# EAGLE library part FT232 (library tpl0401b)
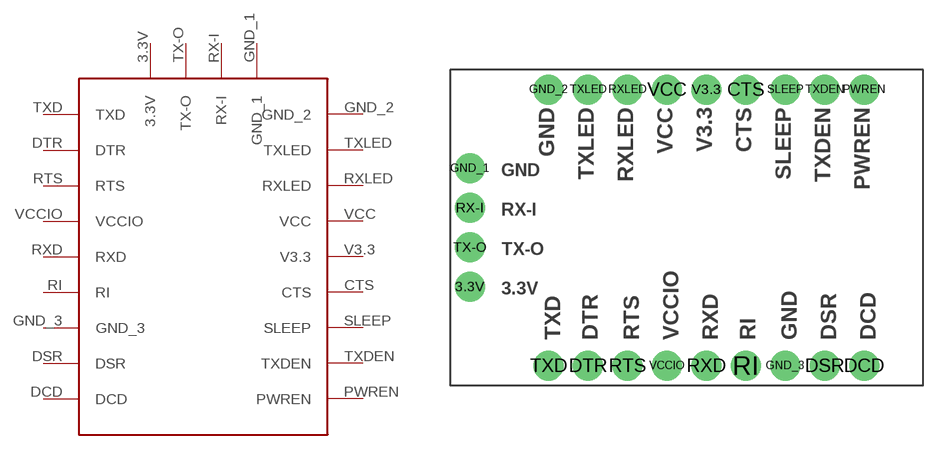
[diagram p0: symbol with the pads of FT232; footprint FT232]

Designator prefix -

## FT232  [FT232]
3.3V  3.3V
CTS  CTS
DCD  DCD
DSR  DSR
DTR  DTR
GND_1  GND_1
GND_2  GND_2
GND_3  GND_3
PWREN  PWREN
RI  RI
RTS  RTS
RX-I  RX-I
RXD  RXD
RXLED  RXLED
SLEEP  SLEEP
TX-O  TX-O
TXD  TXD
TXDEN  TXDEN
TXLED  TXLED
V3.3  V3.3
VCC  VCC
VCCIO  VCCIO

## Footprint FT232 (pad centres in mm)
drill 1 pad 1.93: 3.3V -13.97,-5.08; CTS 3.81,7.62; DCD 11.43,-10.16; DSR 8.89,-10.16; DTR -6.35,-10.16; GND_1 -13.97,2.54; GND_2 -8.89,7.62; GND_3 6.35,-10.16; PWREN 11.43,7.62; RI 3.81,-10.16; RTS -3.81,-10.16; RX-I -13.97,0; RXD 1.27,-10.16; RXLED -3.81,7.62; SLEEP 6.35,7.62; TX-O -13.97,-2.54; TXD -8.89,-10.16; TXDEN 8.89,7.62; TXLED -6.35,7.62; V3.3 1.27,7.62; VCC -1.27,7.62; VCCIO -1.27,-10.16